# EAGLE library part DF40C-20DS-0.4V (library lz-shield)
Digi-Key品番 H11619CT-ND
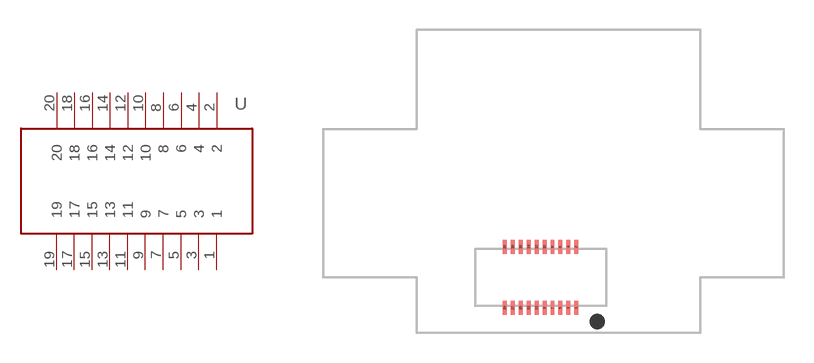
[diagram p9: symbol with the pads of DF40C-20DS-0.4V; footprint DF40C-20DS-0.4V]

Designator prefix -

## DF40C-20DS-0.4V  [DF40C-20DS-0.4V]
1  1
2  2
3  3
4  4
5  5
6  6
7  7
8  8
9  9
10  10
11  11
12  12
13  13
14  14
15  15
16  16
17  17
18  18
19  19
20  20

## Footprint DF40C-20DS-0.4V (pad centres in mm)
smd 0.2 x 0.7: 1 1.8,-1.54; 2 1.8,1.54; 3 1.4,-1.54; 4 1.4,1.54; 5 1,-1.54; 6 1,1.54; 7 0.6,-1.54; 8 0.6,1.54; 9 0.2,-1.54; 10 0.2,1.54; 11 -0.2,-1.54; 12 -0.2,1.54; 13 -0.6,-1.54; 14 -0.6,1.54; 15 -1,-1.54; 16 -1,1.54; 17 -1.4,-1.54; 18 -1.4,1.54; 19 -1.8,-1.54; 20 -1.8,1.54